# Altium schematic symbol library Schematic.SchLib: 75 symbols
Pins are listed as number, name and electrical type; pins without a type are passive.

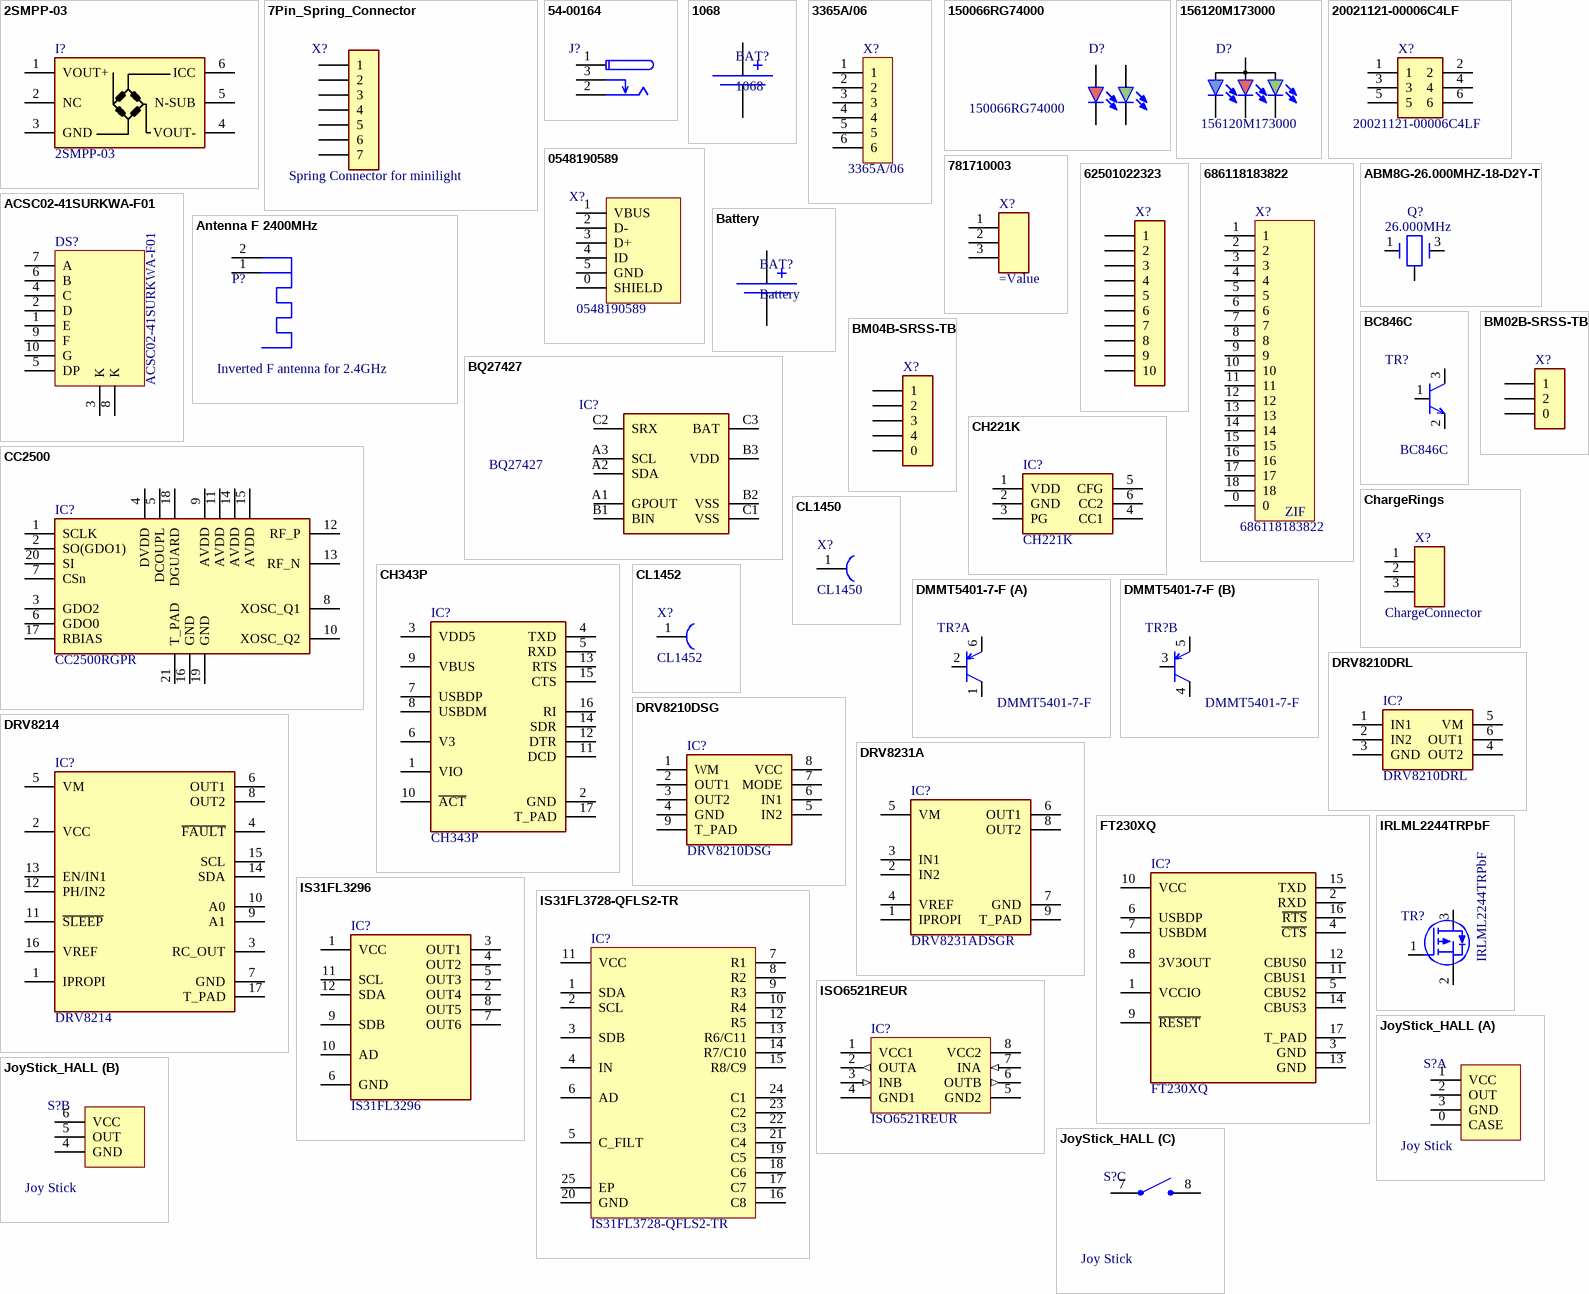
[diagram p0: symbols 2SMPP-03 to JoyStick_HALL]

## 2SMPP-03
designator I?
footprint 2SMPP
pins: 1 VOUT+, 2 NC, 3 GND, 4 VOUT-, 5 N-SUB, 6 ICC

## 7Pin_Spring_Connector
designator X?, comment Spring Connector for minilight
footprint 7Pin_Spring_Connector
pins: 1, 2, 3, 4, 5, 6, 7

## 54-00164
designator J?  (value not drawn)
footprint 54-00164
pins: 1, 2, 3

## 1068
designator BAT?
Keystone THT Coin 2050 coin cell holder Vertical; Value: 1068
footprint 1068 (Batterie Halter (offen) Knopfzelle, 24,5mm 1 Zellen PC-Pin)
pins: 1, 2

## 3365A/06
designator X?
footprint 3M_CBL_RIBN_6X
pins: 1, 2, 3, 4, 5, 6

## 150066RG74000
designator D?
Grün, Rot 520nm Grün, 625nm Rot LED-Indikator - Diskret 3,2V Grün, 2V Rot 0606 (1616 metrisch)
footprint 150066RG74000 (LED GREEN/RED CLEAR 0606 SMD)
pins: 1, 2, 3, 4

## 156120M173000
designator D?
Rot, Grün, Blau (RGB) 624nm Rot, 525nm Grün, 470nm Blau LED-Indikator - Diskret 2V Rot, 3,3V Grün, 3,3V Blau 1206 (3216 metrisch)
footprint 156120M173000 (LED RGB CLR 1206 SMD BOTTOM ENT)
pins: 1, 2, 3, 4

## 20021121-00006C4LF
designator X?
footprint 20021121-00X06CXLF
pins: 1, 2, 3, 4, 5, 6

## 0548190589
designator X?
USB - mini B Buchse Steckverbinder 5 Positionen Oberflächenmontage, rechtwinklig, Durchsteckloch
footprint 0548190589 (CONN RCPT MINI USB B 5POS SMD RA)
pins: 0 SHIELD, 1 VBUS, 2 D-, 3 D+, 4 ID, 5 GND

## 781710003
designator X?
Pico-EZmate PCB Header, Single Row, Gold Plating, Friction Lock, 3 Circuits, Tape and Reel; =Value: 781710003; MPN: 781710003
footprint 781710003 (1.20mm Pitch, Pico-EZmate PCB Header, 3 Circuits)
pins: 1, 2, 3

## 62501022323
designator X?  (value not drawn)
10 Positionen Flachbandkabel Steckverbinder IDC Durchkontaktierung
footprint 62501022323
pins: 1, 2, 3, 4, 5, 6, 7, 8, 9, 10

## 686118183822
designator X?
18 positionen FFC Steckverbinder Kontakte, Vertikal - 2-seitig 0,039" (1,00mm) Oberflächenmontage
footprint 686118183822 (CONN FFC VERT 18POS 1MM SMD)
pins: 0, 1, 2, 3, 4, 5, 6, 7, 8, 9, 10, 11, 12, 13, 14, 15, 16, 17, 18
text: ZIF

## ABM8G-26.000MHZ-18-D2Y-T
designator Q?, comment 26.000MHz
footprint OSCCC322507
pins: 1, 2, 3, 4

## ACSC02-41SURKWA-F01
designator DS?
footprint ACSC02-41SURKWA-F01 (DISPLAY 7-SEG 0.2" SGL RED 10SMD)
pins: 1 E, 2 D, 3 K, 4 C, 5 DP, 6 B, 7 A, 8 K, 9 F, 10 G

## Antenna F 2400MHz
designator P?, comment Inverted F antenna for 2.4GHz  (net tie, no BOM)
footprint Inverted_F_Antenna_2400MHZ
pins: 1 FEED, 2 REF

## Battery
designator BAT?
Value: Battery
pins: 1, 2

## BC846C
designator TR?
footprint SOT23(IRLM2244T) (SOT23, 3-Leads, Body 2.92x2.37mm, Pitch 0.95mm, IPC Medium Density)
pins: 1 B, 2 E, 3 C

## BM02B-SRSS-TB
designator X?
Manufacturer: JST; Manufaturer Partnumber: BM02B-SRSS-TB
footprint BM02B-SRSS-TB (JST SR/SZ series connector 2 pin SMD TOP entry)
pins: 0, 1, 2

## BM04B-SRSS-TB
designator X?
Manufacturer: JST; Manufaturer Partnumber: BM04B-SRSS-TB
footprint BM04B-SRSS-TB (JST SR/SZ series connector 4 pin SMD TOP entry)
pins: 0, 1, 2, 3, 4

## BQ27427
designator IC?
BQ27427YZFR
footprint DSBGA3X3(BQ27427) (BGA, 9-Leads, Body 1.58x1.62mmx0.63mm, Pitch 0.50mm)
pins: A1 GPOUT, A2 SDA, A3 SCL, B1 BIN, B2 VSS, B3 VDD, C1 VSS, C2 SRX, C3 BAT

## CC2500
designator IC?, comment CC2500RGPR
Manufacturer: Texas Instruments; Manufacturer partnumber: CC2500RGPR
footprint QFN20_4X4(CC2500) (QFN, 20-Leads, Body 4.00x4.00mm, Pitch 0.50mm, Thermal Pad 2.80x2.80mm, IPC Medium Density)
pins: 1 SCLK, 2 SO(GDO1), 3 GDO2, 4 DVDD, 5 DCOUPL, 6 GDO0, 7 CSn, 8 XOSC_Q1, 9 AVDD, 10 XOSC_Q2, 11 AVDD, 12 RF_P, 13 RF_N, 14 AVDD, 15 AVDD, 16 GND, 17 RBIAS, 18 DGUARD, 19 GND, 20 SI, 21 T_PAD

## CH221K
designator IC?
footprint SOT95P245X120-6N (SOT23, 6-Leads, Body 2.90x2.45mm, Pitch 0.95mm, IPC Medium Density)
pins: 1 VDD, 2 GND, 3 PG, 4 CC1, 5 CFG, 6 CC2

## CH343P
designator IC?
Manufacturer: WCH
footprint QFN16_3X3 (QFN, 16-Leads, Body 3.00x3.00mm, Pitch 0.50mm, Thermal Pad 2.08x2.08mm, IPC Medium Density)
pins: 1 VIO, 2 GND, 3 VDD5, 4 TXD, 5 RXD, 6 V3, 7 USBDP, 8 USBDM, 9 VBUS, 10 ~{ACT}, 11 DCD, 12 DTR, 13 RTS, 14 SDR, 15 CTS, 16 RI, 17 T_PAD

## ChargeRings
designator X?, comment ChargeConnector
footprint ChargeConnector
pins: 1, 2, 3

## CL1450
designator X?
footprint THT_Solder_Point
pins: 1

## CL1452
designator X?
footprint THT_Solder_Point
pins: 1

## DMMT5401-7-F
designator TR?
footprint SOT95P245X120-6N (SOT23, 6-Leads, Body 2.90x2.45mm, Pitch 0.95mm, IPC Medium Density)
part A pins: 1 C, 2 B, 6 E
part B pins: 3 B, 4 C, 5 E

## DRV8210DRL
designator IC?
Manufacturer: Texas Instruments; Manufacturer Partnummber: DRV8210DRLR
footprint SOT563(DRV8210) (SOTFL, 6-Leads, Body 1.60x1.60mm, Pitch 0.50mm, IPC Medium Density)
pins: 1 IN1, 2 IN2, 3 GND, 4 OUT2, 5 VM, 6 OUT1

## DRV8210DSG
designator IC?
Manufacturer: Texas Instruments; Manufacturer Partnummber: DRV8210DSGR
footprint WSON8(DRV8210) (SON, 8-Leads, Body 2.00x2.00mm, Pitch 0.50mm, Thermal Pad 1.60x0.69mm, IPC Medium Density)
pins: 1 WM, 2 OUT1, 3 OUT2, 4 GND, 5 IN2, 6 IN1, 7 MODE, 8 VCC, 9 T_PAD

## DRV8214
designator IC?
footprint QFN16_3X3 (QFN, 16-Leads, Body 3.00x3.00mm, Pitch 0.50mm, Thermal Pad 2.08x2.08mm, IPC Medium Density)
pins: 1 IPROPI, 2 VCC, 3 RC_OUT, 4 ~{FAULT}, 5 VM, 6 OUT1, 7 GND, 8 OUT2, 9 A1, 10 A0, 11 ~{SLEEP}, 12 PH/IN2, 13 EN/IN1, 14 SDA, 15 SCL, 16 VREF, 17 T_PAD

## DRV8231A
designator IC?, comment DRV8231ADSGR
Bipolar Motortreiber NMOS PWM 8-WSON (2x2)
footprint WSON8(DRV8210) (SON, 8-Leads, Body 2.00x2.00mm, Pitch 0.50mm, Thermal Pad 1.60x0.69mm, IPC Medium Density)
pins: 1 IPROPI, 2 IN2, 3 IN1, 4 VREF, 5 VM, 6 OUT1, 7 GND, 8 OUT2, 9 T_PAD

## FT230XQ
designator IC?
footprint QFN16_4X4(FT230XQ) (QFN, 16-Leads, Body 4.00x4.00mm, Pitch 0.65mm, Thermal Pad 2.08x2.08mm, IPC Medium Density)
pins: 1 VCCIO, 2 RXD, 3 GND, 4 ~{CTS}, 5 CBUS2, 6 USBDP, 7 USBDM, 8 3V3OUT, 9 ~{RESET}, 10 VCC, 11 CBUS1, 12 CBUS0, 13 GND, 14 CBUS3, 15 TXD, 16 ~{RTS}, 17 T_PAD

## IRLML2244TRPbF
designator TR?
Value: IRLML2244TRPbF
footprint SOT23(IRLM2244T) (SOT23, 3-Leads, Body 2.92x2.37mm, Pitch 0.95mm, IPC Medium Density)
pins: 1 G, 2 S, 3 D

## IS31FL3296
designator IC?
footprint QFN12-2X2(IS31FL3296) (QFN, 12-Leads, Body 2.00x2.00mm, Pitch 0.50mm, IPC Medium Density)
pins: 1 VCC, 2 OUT4, 3 OUT1, 4 OUT2, 5 OUT3, 6 GND, 7 OUT6, 8 OUT5, 9 SDB, 10 AD, 11 SCL, 12 SDA

## IS31FL3728-QFLS2-TR
designator IC?
footprint QFN24_4X4(IS31FL3728) (QFN, 24-Leads, Body 4.00x4.00mm, Pitch 0.50mm, Thermal Pad 2.55x2.55mm, IPC Medium Density)
pins: 1 SDA, 2 SCL, 3 SDB, 4 IN, 5 C_FILT, 6 AD, 7 R1, 8 R2, 9 R3, 10 R4, 11 VCC, 12 R5, 13 R6/C11, 14 R7/C10, 15 R8/C9, 16 C8, 17 C7, 18 C6, 19 C5, 20 GND, 21 C4, 22 C3, 23 C2, 24 C1, 25 EP

## ISO6521REUR
designator IC?
footprint VSON8(ISO6521REUR) (SON, 8-Leads, Body 2.00x3.00mm, Pitch 0.50mm, IPC Medium Density)
pins: 1 VCC1 (power), 2 OUTA (out), 3 INB (in), 4 GND1, 5 GND2, 6 OUTB (out), 7 INA (in), 8 VCC2 (power)

## JoyStick_HALL
designator S?, comment Joy Stick
Link: https://de.aliexpress.com/item/1005006282848536.html?spm=a2g0o.order_list.order_list_main.17.4f7d5c5frnnWJ7&gatewayAdapt=glo2deu
footprint PS4_Joystick (GINFULL hell effect Joystick)
part A pins: 0 CASE, 1 VCC, 2 OUT, 3 GND
part B pins: 4 GND, 5 OUT, 6 VCC
part C pins: 7, 8

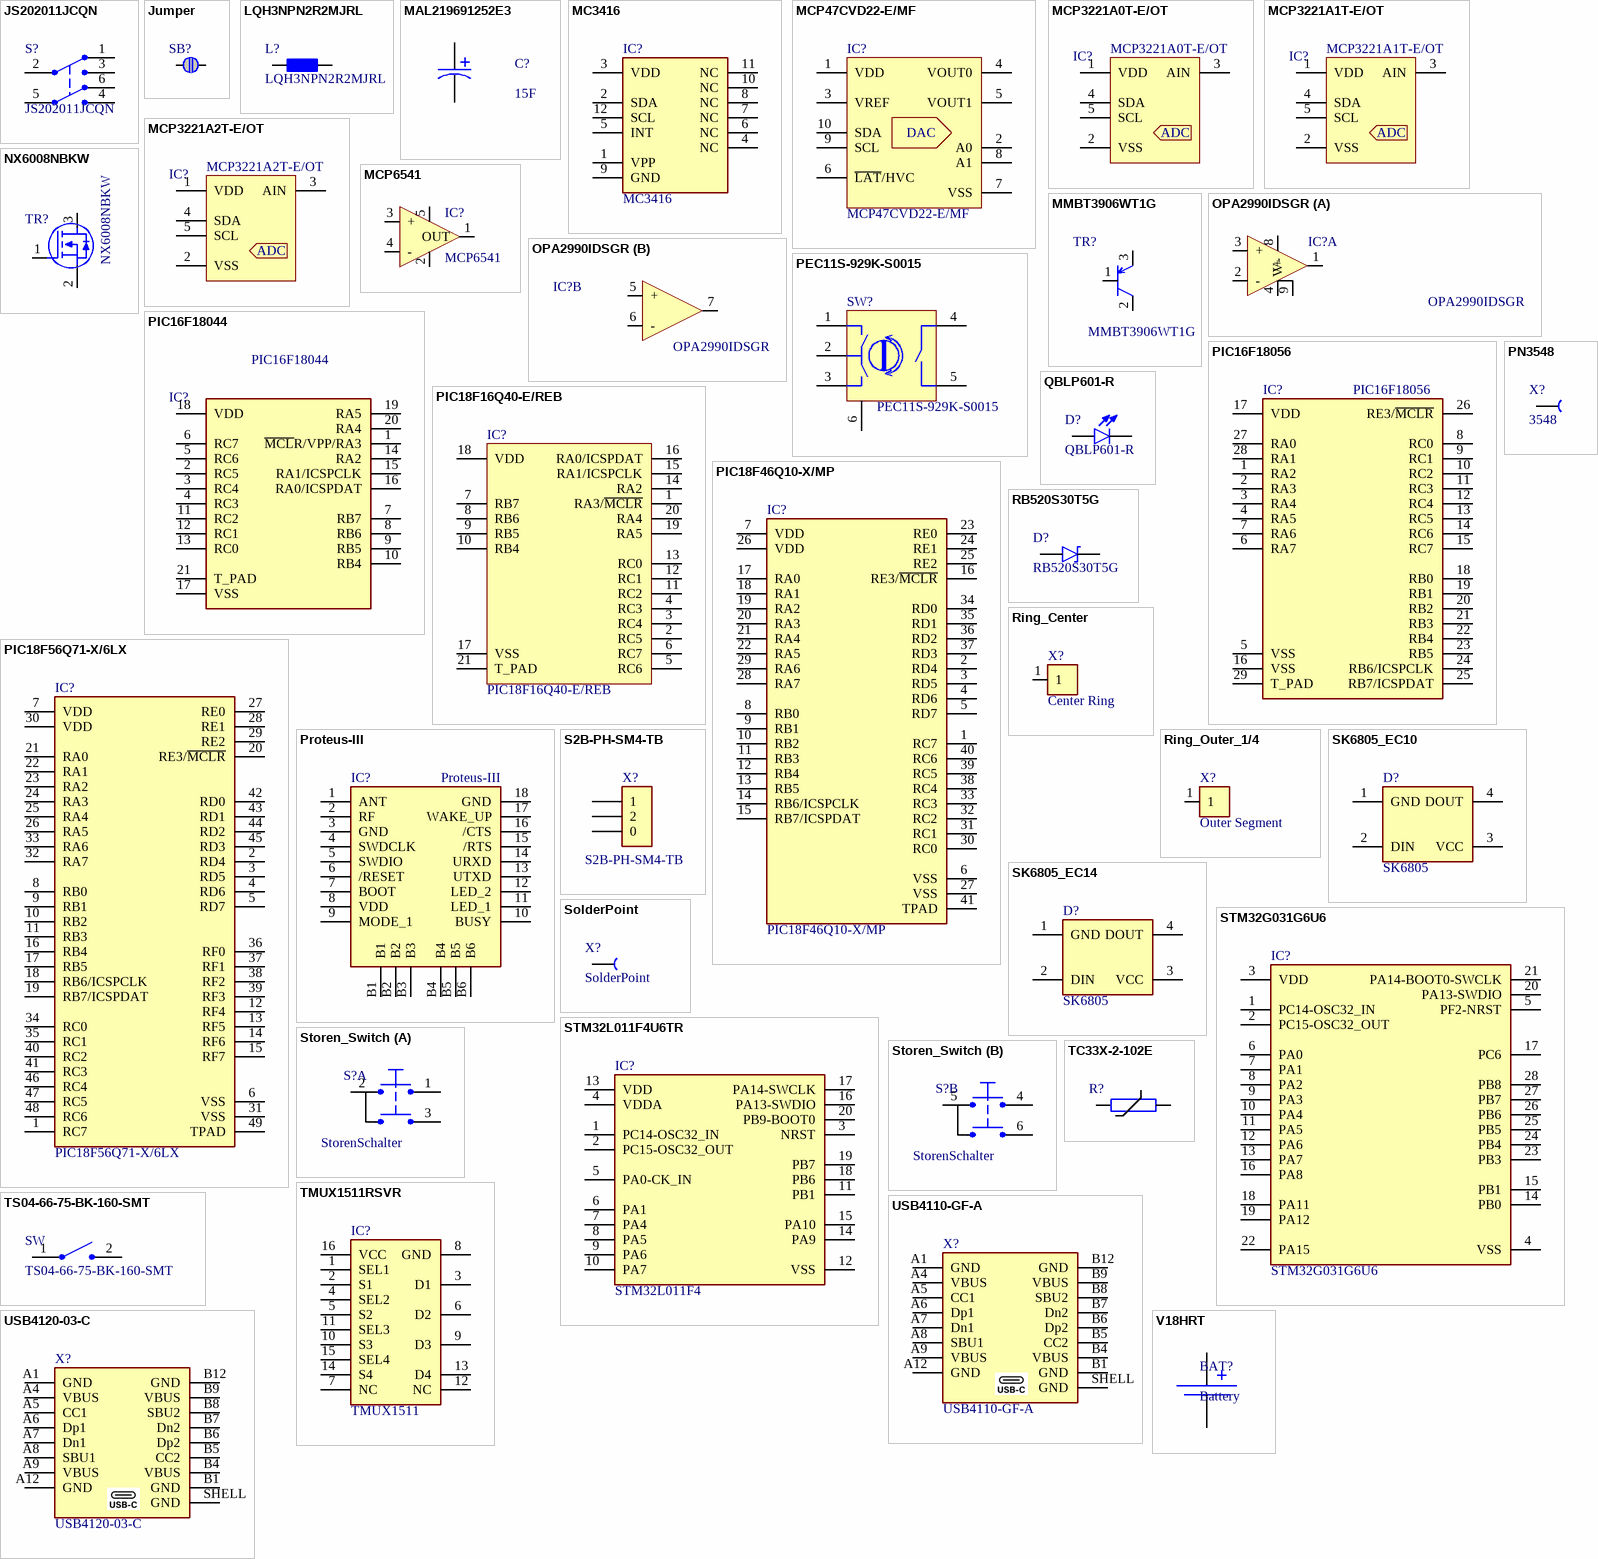
[diagram p1: symbols JS202011JCQN to V18HRT]

## JS202011JCQN
designator S?
footprint JS202011JCQN
pins: 1, 2, 3, 4, 5, 6

## Jumper
designator SB?  (value not drawn)
footprint jUMPER
pins: 1, 2

## LQH3NPN2R2MJRL
designator L?
MPN: CBC2012T2R2M; Value: LQH3NPN2R2MJRL
footprint INDP3030X02N (Precision Wire Wound Inductor, 2-Leads, Body 3.00x3.00mm, IPC Medium Density)
pins: 1, 2

## MAL219691252E3
designator C?, comment 15F
MPN: MAL219691252E3; Value: 15F
footprint HVC_ENYCAP_E2_FLAT
pins: 1, 2

## MC3416
designator IC?
Value: MC3416; MPN: MC3416
footprint VLGA-12 (LGA, 12-Leads, Body 2.00x2.00mmx1.00mm, Pitch 0.50mm)
pins: 1 VPP, 2 SDA, 3 VDD, 4 NC, 5 INT, 6 NC, 7 NC, 8 NC, 9 GND, 10 NC, 11 NC, 12 SCL

## MCP47CVD22-E/MF
designator IC?
footprint WSON10(MCP47CXDX1/2) (SON, 10-Leads, Body 3.00x3.00mm, Pitch 0.50mm, Thermal Pad 2.30x1.49mm, IPC Medium Density)
pins: 1 VDD, 2 A0, 3 VREF, 4 VOUT0, 5 VOUT1, 6 ~{LAT}/HVC, 7 VSS, 8 A1, 9 SCL, 10 SDA
text: DAC

## MCP3221A0T-E/OT
designator IC?
footprint SOT23-5(MCP73831) (SOT23, 5-Leads, Body 2.90x2.80mm, Pitch 0.95mm, IPC Medium Density)
pins: 1 VDD, 2 VSS, 3 AIN, 4 SDA, 5 SCL
text: ADC

## MCP3221A1T-E/OT
designator IC?
footprint SOT23-5(MCP73831) (SOT23, 5-Leads, Body 2.90x2.80mm, Pitch 0.95mm, IPC Medium Density)
pins: 1 VDD, 2 VSS, 3 AIN, 4 SDA, 5 SCL
text: ADC

## MCP3221A2T-E/OT
designator IC?
footprint SOT23-5(MCP73831) (SOT23, 5-Leads, Body 2.90x2.80mm, Pitch 0.95mm, IPC Medium Density)
pins: 1 VDD, 2 VSS, 3 AIN, 4 SDA, 5 SCL
text: ADC

## MCP6541
designator IC?
footprint SOT353/SC-70-5(MCP6541) (SOT23, 5-Leads, Body 2.00x2.10mm, Pitch 0.65mm, IPC Medium Density)
pins: 1 OUT, 2 VSS, 3 +, 4 -, 5 VDD

## MMBT3906WT1G
designator TR?
footprint SOT323/SC-70(NX6008NBKW) (SOT23, 3-Leads, Body 2.00x2.10mm, Pitch 0.65mm, IPC Medium Density)
pins: 1 B, 2 E, 3 C

## NX6008NBKW
designator TR?
Value: NX6008NBKW
footprint SOT323/SC-70(NX6008NBKW) (SOT23, 3-Leads, Body 2.00x2.10mm, Pitch 0.65mm, IPC Medium Density)
pins: 1 G, 2 S, 3 D

## OPA2990IDSGR
designator IC?
Replacment for LM358D; ComponentLink1Description: Datasheet; ComponentLink1URL: https://www.ti.com/lit/ds/symlink/opa2990.pdf?HQS=dis-dk-null-digikeymode-dsf-pf-null-wwe&ts=1774018374396&ref_url=https%253A%252F%252Fwww.ti.com%252Fgeneral%252Fdocs%252Fsuppproductinfo.tsp%253FdistId%253D10%2526gotoUrl%253Dhttps%253A%252F%252Fwww.ti.com%252Flit%252Fgpn%252Fopa2990
footprint WSON8(DRV8210) (SON, 8-Leads, Body 2.00x2.00mm, Pitch 0.50mm, Thermal Pad 1.60x0.69mm, IPC Medium Density)
part A pins: 1 OUT, 2 -, 3 +, 4 V-, 8 V+, 9 EP
part B pins: 5 +, 6 -, 7 OUT

## PEC11S-929K-S0015
designator SW?
footprint PEC11S-929K-S0015 (Drehgeber Mechanisch 15 Quadratur (inkremental) Vertikal)
pins: 1 A, 2 C, 3 B, 4, 5, 6

## PIC16F18044
designator IC?
footprint QFN20_4X4(PIC16F18044) (QFN, 20-Leads, Body 4.00x4.00mm, Pitch 0.50mm, Thermal Pad 2.80x2.80mm, IPC Medium Density)
pins: 1 ~{MCL}R/VPP/RA3, 2 RC5, 3 RC4, 4 RC3, 5 RC6, 6 RC7, 7 RB7, 8 RB6, 9 RB5, 10 RB4, 11 RC2, 12 RC1, 13 RC0, 14 RA2, 15 RA1/ICSPCLK, 16 RA0/ICSPDAT, 17 VSS, 18 VDD, 19 RA5, 20 RA4, 21 T_PAD

## PIC16F18056
designator IC?
footprint QFN28_4X4(PIC16F18056) (QFN, 28-Leads, Body 4.00x4.00mm, Pitch 0.40mm, Thermal Pad 2.75x2.75mm, IPC Medium Density)
pins: 1 RA2, 2 RA3, 3 RA4, 4 RA5, 5 VSS, 6 RA7, 7 RA6, 8 RC0, 9 RC1, 10 RC2, 11 RC3, 12 RC4, 13 RC5, 14 RC6, 15 RC7, 16 VSS, 17 VDD, 18 RB0, 19 RB1, 20 RB2, 21 RB3, 22 RB4, 23 RB5, 24 RB6/ICSPCLK, 25 RB7/ICSPDAT, 26 RE3/~{MCLR}, 27 RA0, 28 RA1, 29 T_PAD

## PIC18F16Q40-E/REB
designator IC?
footprint QFN20_3X3(PIC18F16Q40) (QFN, 20-Leads, Body 3.00x3.00mm, Pitch 0.40mm, Thermal Pad 1.70x1.70mm, IPC Medium Density)
pins: 1 RA3/~{MCLR}, 2 RC5, 3 RC4, 4 RC3, 5 RC6, 6 RC7, 7 RB7, 8 RB6, 9 RB5, 10 RB4, 11 RC2, 12 RC1, 13 RC0, 14 RA2, 15 RA1/ICSPCLK, 16 RA0/ICSPDAT, 17 VSS, 18 VDD, 19 RA5, 20 RA4, 21 T_PAD

## PIC18F46Q10-X/MP
designator IC?
footprint QFN40_5X5(PIC18F46Q10) (QFN, 40-Leads, Body 5.00x5.00mm, Pitch 0.40mm, Thermal Pad 3.80x3.80mm, IPC Medium Density)
pins: 1 RC7, 2 RD4, 3 RD5, 4 RD6, 5 RD7, 6 VSS, 7 VDD, 8 RB0, 9 RB1, 10 RB2, 11 RB3, 12 RB4, 13 RB5, 14 RB6/ICSPCLK, 15 RB7/ICSPDAT, 16 RE3/~{MCLR}, 17 RA0, 18 RA1, 19 RA2, 20 RA3, 21 RA4, 22 RA5, 23 RE0, 24 RE1, 25 RE2, 26 VDD, 27 VSS, 28 RA7, 29 RA6, 30 RC0, 31 RC1, 32 RC2, 33 RC3, 34 RD0, 35 RD1, 36 RD2, 37 RD3, 38 RC4, 39 RC5, 40 RC6, 41 TPAD

## PIC18F56Q71-X/6LX
designator IC?
footprint VQFN48_6X6(PIC18F56Q71) (QFN, 48-Leads, Body 6.00x6.00mm, Pitch 0.40mm, Thermal Pad 4.20x4.20mm, IPC Medium Density)
pins: 1 RC7, 2 RD4, 3 RD5, 4 RD6, 5 RD7, 6 VSS, 7 VDD, 8 RB0, 9 RB1, 10 RB2, 11 RB3, 12 RF4, 13 RF5, 14 RF6, 15 RF7, 16 RB4, 17 RB5, 18 RB6/ICSPCLK, 19 RB7/ICSPDAT, 20 RE3/~{MCLR}, 21 RA0, 22 RA1, 23 RA2, 24 RA3, 25 RA4, 26 RA5, 27 RE0, 28 RE1, 29 RE2, 30 VDD, 31 VSS, 32 RA7, 33 RA6, 34 RC0, 35 RC1, 36 RF0, 37 RF1, 38 RF2, 39 RF3, 40 RC2, 41 RC3, 42 RD0, 43 RD1, 44 RD2, 45 RD3, 46 RC4, 47 RC5, 48 RC6, 49 TPAD

## PN3548
designator X?, comment 3548
0,187" (4,75mm) Schnellanschluss Buchse Lötverbindung Steckverbinder Nicht isoliert
footprint PN3548 (CONN QC RCPT 0.187 SOLDER)
pins: 1

## Proteus-III
designator IC?
footprint WIRL-BTLE (Proteus-III Bluetooth  5.1 module T&R)
pins: 1 ANT, 2 RF, 3 GND, 4 SWDCLK, 5 SWDIO, 6 /RESET, 7 BOOT, 8 VDD, 9 MODE_1, 10 BUSY, 11 LED_1, 12 LED_2, 13 UTXD, 14 URXD, 15 /RTS, 16 /CTS, 17 WAKE_UP, 18 GND, B1, B2, B3, B4, B5, B6

## QBLP601-R
designator D?
footprint LED0603 (Chip Diode, 2-Leads, Body 1.60x0.80mm, IPC Medium Density)
pins: 1, 2

## RB520S30T5G
designator D?
footprint SOD523(RB520S30T5G) (SODFL, 2-Leads, Body 0.80x1.60mm, IPC Medium Density)
pins: 1, 2

## Ring_Center
designator X?, comment Center Ring
footprint Slip_Ring_Center
pins: 1

## Ring_Outer_1/4
designator X?, comment Outer Segment
footprint Slip_Ring_Outer_1/4
pins: 1

## S2B-PH-SM4-TB
designator X?
Steckverbinder Steckleiste Oberflächenmontage, rechtwinklig 2 positionen 0,079" (2,00mm)
footprint S2B-PH-SM4-TB (CONN HEADER SMD R/A 2POS 2MM)
pins: 0, 1, 2

## SK6805_EC10
designator D?, comment SK6805
footprint SK6805_EC10
pins: 1 GND, 2 DIN, 3 VCC, 4 DOUT

## SK6805_EC14
designator D?, comment SK6805
JLCPCB Part #: C2909055
footprint SK6805_EC14
pins: 1 GND, 2 DIN, 3 VCC, 4 DOUT

## SolderPoint
designator X?
footprint SolderPoint (Simple Solder Point to connect someting)
pins: 1

## STM32G031G6U6
designator IC?
footprint UFQFPN28(STM32G031x6) (QFN, 28-Leads, Body 4.00x4.00mm, Pitch 0.50mm, IPC Medium Density)
pins: 1 PC14-OSC32_IN, 2 PC15-OSC32_OUT, 3 VDD, 4 VSS, 5 PF2-NRST, 6 PA0, 7 PA1, 8 PA2, 9 PA3, 10 PA4, 11 PA5, 12 PA6, 13 PA7, 14 PB0, 15 PB1, 16 PA8, 17 PC6, 18 PA11, 19 PA12, 20 PA13-SWDIO, 21 PA14-BOOT0-SWCLK, 22 PA15, 23 PB3, 24 PB4, 25 PB5, 26 PB6, 27 PB7, 28 PB8

## STM32L011F4U6TR
designator IC?, comment STM32L011F4
MPN: STM32L011F4U6TR; Value: STM32L011F4
footprint UFQFPN20 (QFN, 20-Leads, Body 3.00x3.00mm, Pitch 0.50mm, IPC Medium Density)
pins: 1 PC14-OSC32_IN, 2 PC15-OSC32_OUT, 3 NRST, 4 VDDA, 5 PA0-CK_IN, 6 PA1, 7 PA4, 8 PA5, 9 PA6, 10 PA7, 11 PB1, 12 VSS, 13 VDD, 14 PA9, 15 PA10, 16 PA13-SWDIO, 17 PA14-SWCLK, 18 PB6, 19 PB7, 20 PB9-BOOT0

## Storen_Switch
designator S?, comment StorenSchalter
footprint Blinds_Switch_UP_Down
part A pins: 1, 2, 3
part B pins: 4, 5, 6

## TC33X-2-102E
designator R?, comment 1K  (value not drawn)
MPN: RL0402FR-070R47L; Tolerance: 1%; Value: 1K
footprint TC33X-2-XXXE (Bourns Trimmer Pot)
pins: 1, 2, 3

## TMUX1511RSVR
designator IC?, comment TMUX1511
footprint UQFN16(TMUX1511) (QFN, 16-Leads, Body 1.80x2.60mm, Pitch 0.40mm, IPC Medium Density)
pins: 1 SEL1, 2 S1, 3 D1, 4 SEL2, 5 S2, 6 D2, 7 NC, 8 GND, 9 D3, 10 S3, 11 SEL3, 12 NC, 13 D4, 14 S4, 15 SEL4, 16 VCC

## TS04-66-75-BK-160-SMT
designator SW
footprint TS04-66-75-BK-160-SMT (Tastschalter SPST-Schließer Von oben betätigt Oberflächenmontage)
pins: 1, 2

## USB4110-GF-A
designator X?
footprint USB4110 (USB Type C Receptacle for USB 2.0)
pins: A1 GND, A4 VBUS, A5 CC1, A6 Dp1, A7 Dn1, A8 SBU1, A9 VBUS, A12 GND, B1 GND, B4 VBUS, B5 CC2, B6 Dp2, B7 Dn2, B8 SBU2, B9 VBUS, B12 GND, SHELL GND

## USB4120-03-C
designator X?
footprint USB4120 (USB Type C Receptacle for USB 2.0)
pins: A1 GND, A4 VBUS, A5 CC1, A6 Dp1, A7 Dn1, A8 SBU1, A9 VBUS, A12 GND, B1 GND, B4 VBUS, B5 CC2, B6 Dp2, B7 Dn2, B8 SBU2, B9 VBUS, B12 GND, SHELL GND

## V18HRT
designator BAT?, comment Battery
Battery V18HRT with holders; Value: Battery
footprint V18HRT (Battery with holders)
pins: 1, 2